# Altium integrated library LM5164DDAR.IntLib: 1 symbol
Pins are listed as number, name and electrical type; pins without a type are passive.

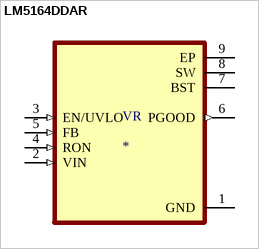
[diagram p0: symbol LM5164DDAR]

## LM5164DDAR
designator VR
6-V to 100-V input, 1-A synchronous buck DC-DC converter with ultra-low IQ 8-SO PowerPAD -40 to 150; MF: Texas Instruments; MP: LM5164DDAR; Availability: Unavailable; Texas_Instruments-Purchase-URL: https://snapeda.com/shop?store=Texas+Instruments&id=3234860; SnapEDA_Link: https://www.snapeda.com/parts/LM5164DDAR/Texas%20Instruments/view-part/3234860/?ref=snap; Price: None; Package: HSOIC-8 Texas Instruments; Mouser-Purchase-URL: https://snapeda.com/shop?store=Mouser&id=3234860; Value: *
footprint VREG_LM5017MR/NOPB
pins: 1 GND (power), 2 VIN (in), 3 EN/UVLO (in), 4 RON (in), 5 FB (in), 6 PGOOD (out), 7 BST (power), 8 SW (power), 9 EP (power)